# Altium footprint library HEADER_2x4_100mil.PcbLib: 1 footprints
Each footprint in its own frame and in the unit in brackets; x right, y up, seen from the top. Pads: shape width x height; smd on the part's side, far side on the other; paste and mask are expansions set on the pad; w line width, h text height; cw(c..) or ccw(c..) is an arc to the next point about the centre after c.
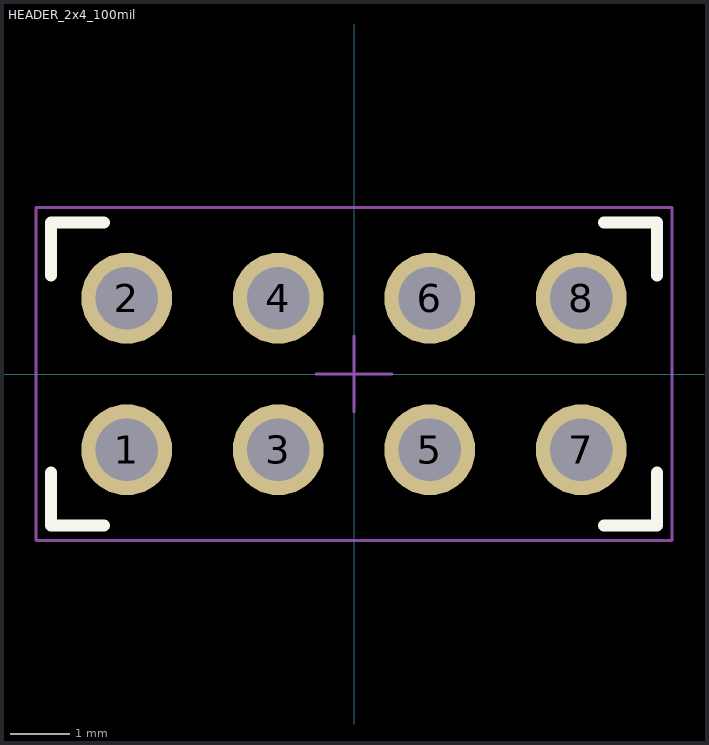
[diagram p0: the footprint, top view; thin cyan lines are the x and y axes]

## HEADER_2x4_100mil [mil]
pads (8):
  round 60 hole 41: 1(-150,-50) 2(-150,50) 3(-50,-50) 4(-50,50) 5(50,-50) 6(50,50) 7(150,-50) 8(150,50)
Top Overlay:
  lines w7.87: -200,-65 -200,-100 -165,-100 ; -200,65 -200,100 -165,100 ; 165,-100 200,-100 200,-65 ; 165,100 200,100 200,65
Mechanical 15:
  lines w1.97: -25,0 0,0 ; 0,-25 0,0 ; 0,25 0,0 ; 25,0 0,0 ; -210,-110 210,-110 210,110 -210,110 -210,-110
3D body "PH2-08-UA.STEP": height 335.43, standoff -119.29, extent -200,-96.85 200,100